# Altium footprint library BTS3800SL.PcbLib: 1 footprints
Each footprint in its own frame and in the unit in brackets; x right, y up, seen from the top. Pads: shape width x height; smd on the part's side, far side on the other; paste and mask are expansions set on the pad; w line width, h text height; cw(c..) or ccw(c..) is an arc to the next point about the centre after c.
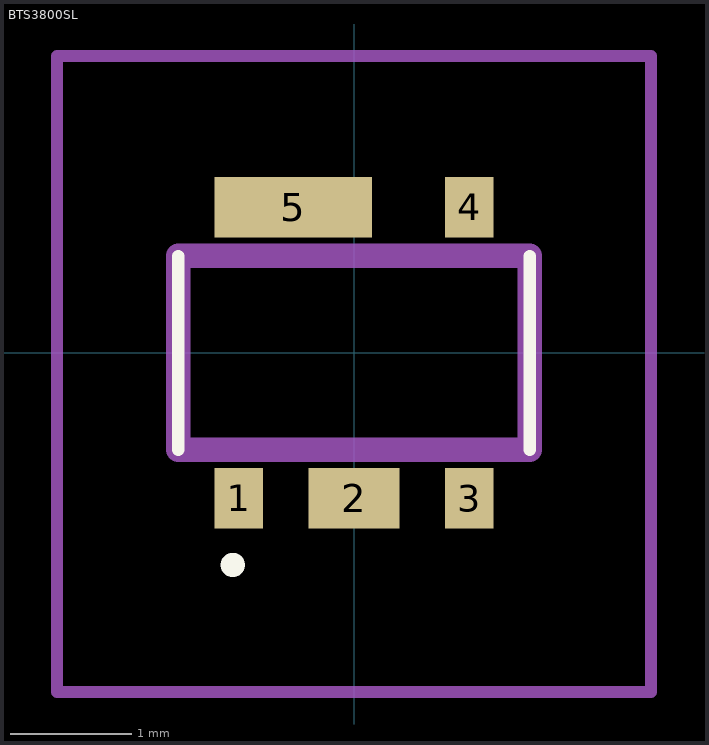
[diagram p0: the footprint, top view; thin cyan lines are the x and y axes]

## BTS3800SL [mm]
pads (5):
  rect 0.4x0.5 smd: 1(-0.95,-1.2) 3(0.95,-1.2) 4(0.95,1.2)
  rect 0.75x0.5 smd: 2(0,-1.2)
  rect 1.3x0.5 smd: 5(-0.5,1.2)
Top Overlay:
  lines w0.1: -1.45,-0.8 -1.45,0.8 ; 1.45,-0.8 1.45,0.8 ; -1,-1.8 cw(c-1,-1.75) -1,-1.7 ; -1,-1.8 -1,-1.8 ; -1,-1.8 ccw(c-1,-1.75) -1,-1.7 ; -1,-1.7 -1,-1.7
Mechanical 15:
  lines w0.2: -1.45,-0.8 1.45,-0.8 1.45,0.8 -1.45,0.8 -1.45,-0.8
Mechanical 20:
  lines w0.1: -2.45,-2.8 2.45,-2.8 2.45,2.45 -2.45,2.45 -2.45,-2.8